# Altium schematic symbol library Fancy.SchLib: 110 symbols
Pins are listed as number, name and electrical type; pins without a type are passive.

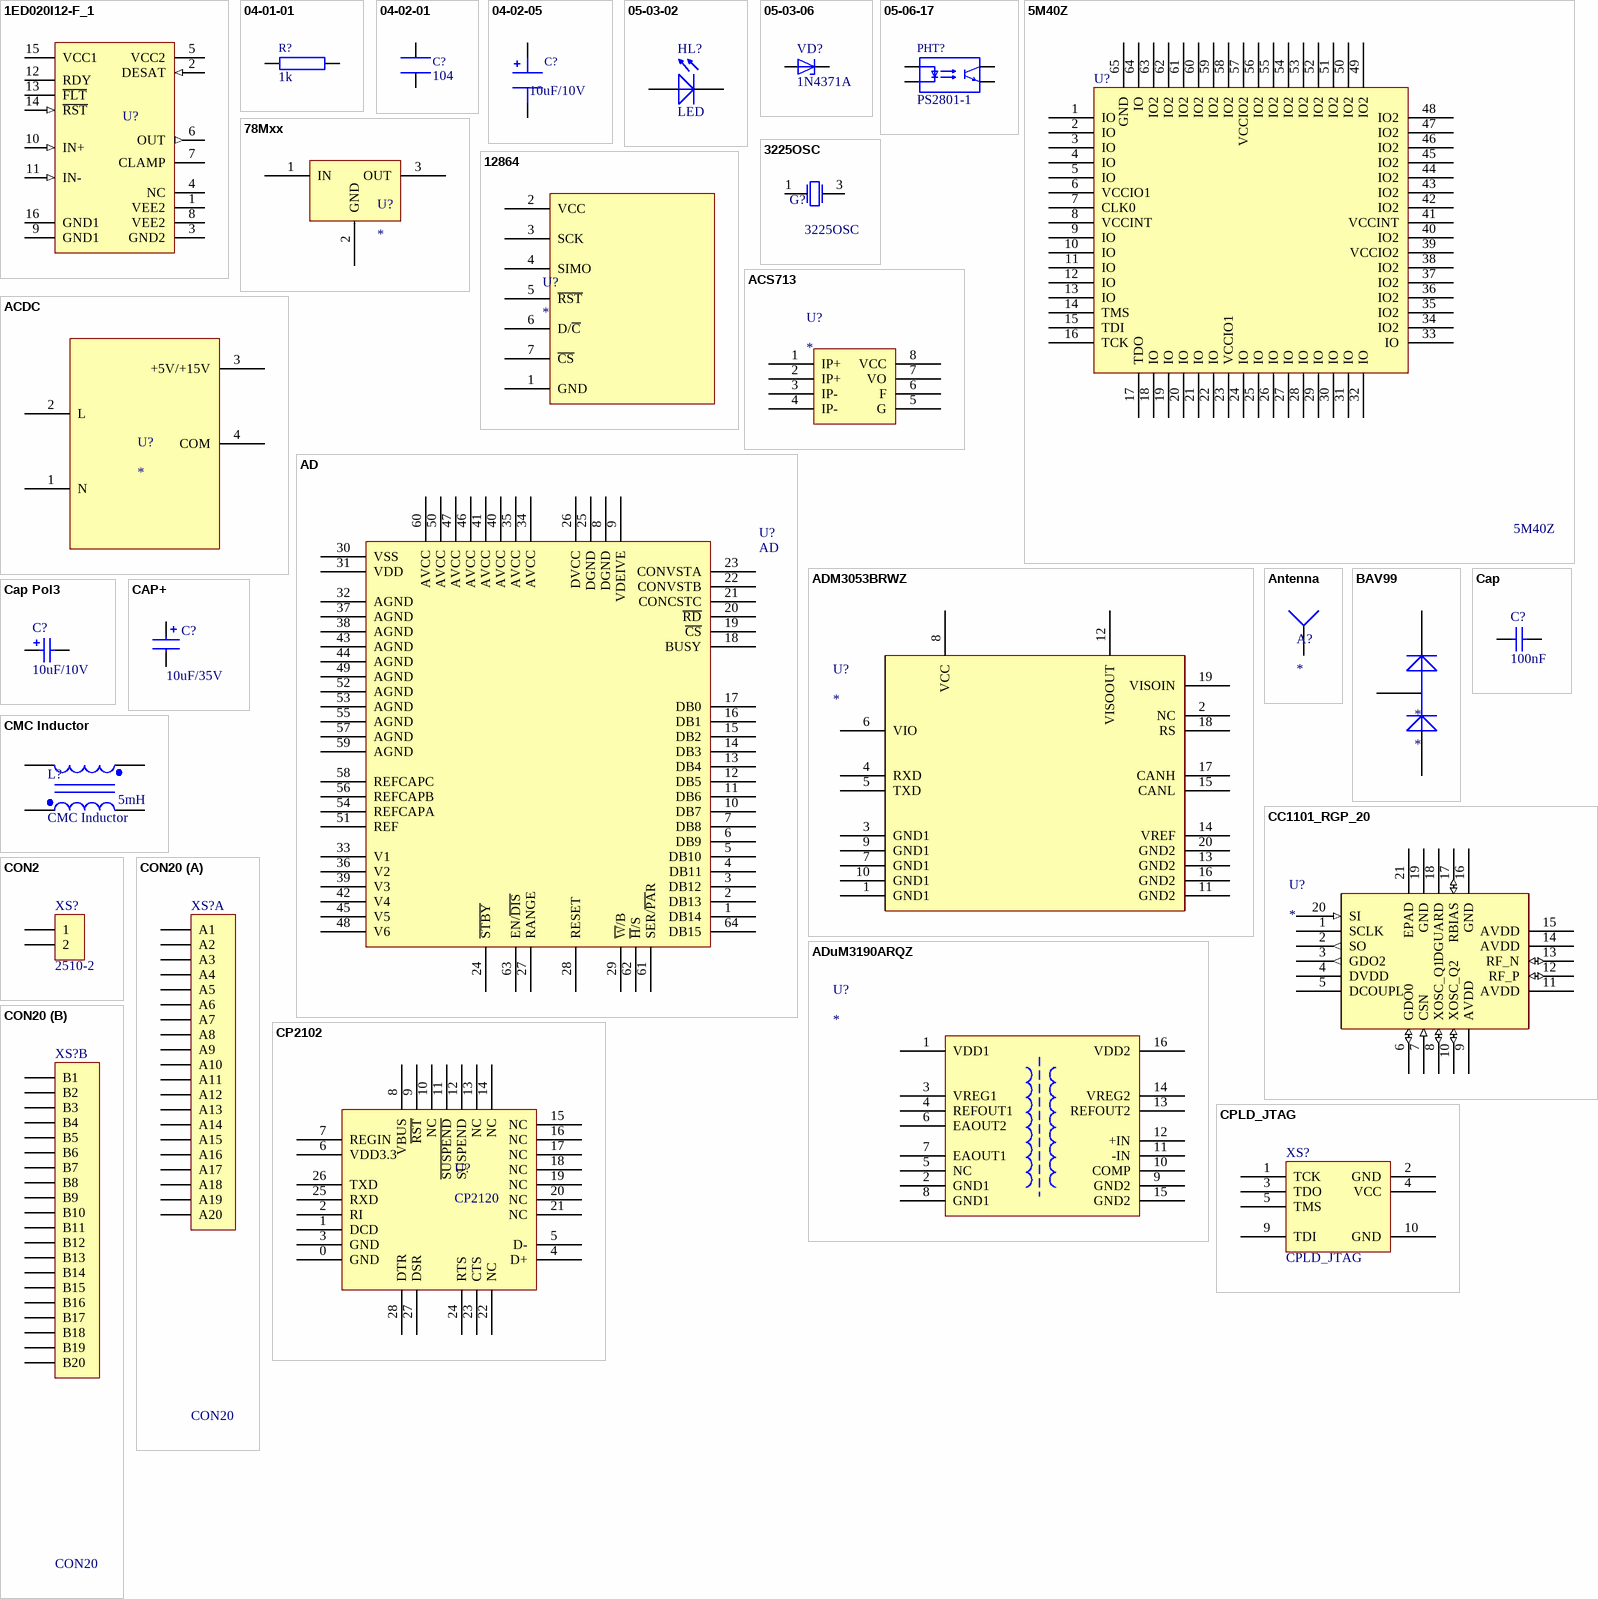
[diagram p0: symbols 1ED020I12-F_1 to CPLD_JTAG]

## 1ED020I12-F_1
designator U?
Single IGBT Driver IC, PG-DSO-16-15, Reel, Green; Manufacturer: Infineon; PartNumber: 1ED020I12-F; Fault Reporting: DESAT; Green: TRUE; Shutdown/Enable: /RST; Tj (max): 150燿egC; Turn On Propagation Delay (max): 205爊s; UVLO_ON_max: 12.6燰; DatasheetVersion: Rev. 2.3; PackageVersion: Rev. 02, 07/2012; PackageReference: PG-DSO-16-15; PackageDescription: 16-Pin Plastic (Green) Dual Small Outline Package, 10.34 x 7.505 mm Body, 1.27 mm Pitch; Supplier 1: Mouser; Supplier Part Number 1: 641-1ED020I12-F; Halogen-free: TRUE; Topology: Single; Mounting Technology: Surface Mount; ComponentLink1Description: Manufacturer URL; ComponentLink1URL: http://www.infineon.com/; ComponentLink2Description: Datasheet; ComponentLink2URL: http://www.infineon.com/dgdl/Datasheet_1ED020I12-F_V2+3.pdf?folderId=db3a30432b16d655012b33fafdac11e2&fileId=db3a30433afc7e3e013b2c689d235c77; ComponentLink3Description: Package Specification; ComponentLink3URL: http://www.infineon.com/dgdl/1ED020I12-B2_DS_rev2+0.pdf?folderId=db3a30432b16d655012b33fafdac11e2&fileId=db3a304333227b5e013344bf16f84ca6
footprint INF-PG-DSO-16-15_A_N (SOP, 16-Leads, Body 10.34x7.505mm, Pitch 1.27mm, IPC Medium Density)
footprint INF-PG-DSO-16-15_A_L (SOP, 16-Leads, Body 10.34x7.505mm, Pitch 1.27mm, IPC High Density)
footprint INF-PG-DSO-16-15_A_M (SOP, 16-Leads, Body 10.34x7.505mm, Pitch 1.27mm, IPC Low Density)
pins: 1 VEE2 (power) "Negative power supply output side", 2 DESAT (in) "Desaturation protection", 3 GND2 (power) "Signal ground output side", 4 NC "Not connected", 5 VCC2 (power) "Positive power supply output side", 6 OUT (out) "Driver output", 7 CLAMP "Miller clamping", 8 VEE2 (power) "Negative power supply output side", 9 GND1 (power) "Ground input side", 10 IN+ (in) "Non inverted driver input", 11 IN- (in) "Inverted driver input", 12 RDY (oc) "Ready output", 13 ~{FLT} (oc) "Fault output, low active", 14 ~{RST} (in) "Reset input, low active", 15 VCC1 (power) "Positive power supply input side", 16 GND1 (power) "Ground input side"

## 04-01-01
designator R?, comment 1k
footprint QSOP_16
pins: 1, 2

## 04-02-01
designator C?, comment 104
footprint 0805
footprint CBB-0.2
pins: 1, 2

## 04-02-05
designator C?, comment 10uF/10V
footprint 3528
pins: 1, 2

## 05-03-02
designator HL?, comment LED
footprint LED-3528
footprint 1206D-12
footprint RB-.1/.2
footprint LED-0805
pins: 1, 2

## 05-03-06
designator VD?, comment 1N4371A
footprint DIODE-0.3
footprint 1206D-AK
pins: A 1, K 2

## 05-06-17
designator PHT?, comment PS2801-1
footprint GUANG'OU
footprint 4-SO-300
pins: A 1, C 4, E 3, K 2

## 5M40Z
designator U?
footprint EQFP64
pins: 1 IO, 2 IO, 3 IO, 4 IO, 5 IO, 6 VCCIO1, 7 CLK0, 8 VCCINT, 9 IO, 10 IO, 11 IO, 12 IO, 13 IO, 14 TMS, 15 TDI, 16 TCK, 17 TDO, 18 IO, 19 IO, 20 IO, 21 IO, 22 IO, 23 VCCIO1, 24 IO, 25 IO, 26 IO, 27 IO, 28 IO, 29 IO, 30 IO, 31 IO, 32 IO, 33 IO, 34 IO2, 35 IO2, 36 IO2, 37 IO2, 38 IO2, 39 VCCIO2, 40 IO2, 41 VCCINT, 42 IO2, 43 IO2, 44 IO2, 45 IO2, 46 IO2, 47 IO2, 48 IO2, 49 IO2, 50 IO2, 51 IO2, 52 IO2, 53 IO2, 54 IO2, 55 IO2, 56 IO2, 57 VCCIO2, 58 IO2, 59 IO2, 60 IO2, 61 IO2, 62 IO2, 63 IO2, 64 IO, 65 GND

## 78Mxx
designator U?
footprint TO252 (DPAK, 3-Leads, Body 6.57x6.1mm, Pitch 2.29mm, IPC Medium Density)
pins: 1 IN, 2 GND, 3 OUT

## 3225OSC
designator G?
Crystal Oscillator
footprint 3225OSC
pins: 1, 2 hidden to GND, 3, 4 hidden to GND

## 12864
designator U?
footprint 12864
pins: 1 GND, 2 VCC, 3 SCK, 4 SIMO, 5 ~{RST}, 6 D/~{C}, 7 ~{CS}

## ACDC
designator U?
footprint ACDC
pins: 1 N, 2 L, 3 +5V/+15V, 4 COM

## ACS713
designator U?
霍尔元件
pins: 1 IP+, 2 IP+, 3 IP-, 4 IP-, 5 G, 6 F, 7 VO, 8 VCC

## AD
designator U?
footprint GEOM_0001
pins: 1 DB14, 2 DB13, 3 DB12, 4 DB11, 5 DB10, 6 DB9, 7 DB8, 8 DGND, 9 VDEIVE, 10 DB7, 11 DB6, 12 DB5, 13 DB4, 14 DB3, 15 DB2, 16 DB1, 17 DB0, 18 BUSY, 19 ~{CS}, 20 ~{RD}, 21 CONCSTC, 22 CONVSTB, 23 CONVSTA, 24 ~{STBY}, 25 DGND, 26 DVCC, 27 RANGE, 28 RESET, 29 ~{W}/B, 30 VSS, 31 VDD, 32 AGND, 33 V1, 34 AVCC, 35 AVCC, 36 V2, 37 AGND, 38 AGND, 39 V3, 40 AVCC, 41 AVCC, 42 V4, 43 AGND, 44 AGND, 45 V5, 46 AVCC, 47 AVCC, 48 V6, 49 AGND, 50 AVCC, 51 REF, 52 AGND, 53 AGND, 54 REFCAPA, 55 AGND, 56 REFCAPB, 57 AGND, 58 REFCAPC, 59 AGND, 60 AVCC, 61 SER/~{PA}R, 62 ~{H}/S, 63 EN/~{DIS}, 64 DB15

## ADM3053BRWZ
designator U?
Imported; RefDes: RefDes; Type: DEV; Value: Value
footprint RW_20
pins: 1 GND1, 2 NC, 3 GND1, 4 RXD, 5 TXD, 6 VIO, 7 GND1, 8 VCC, 9 GND1, 10 GND1, 11 GND2, 12 VISOOUT, 13 GND2, 14 VREF, 15 CANL, 16 GND2, 17 CANH, 18 RS, 19 VISOIN, 20 GND2

## ADuM3190ARQZ
designator U?
Imported; RefDes: RefDes; Type: DEV; Value: Value
footprint RQ_16
pins: 1 VDD1, 2 GND1, 3 VREG1, 4 REFOUT1, 5 NC, 6 EAOUT2, 7 EAOUT1, 8 GND1, 9 GND2, 10 COMP, 11 -IN, 12 +IN, 13 REFOUT2, 14 VREG2, 15 GND2, 16 VDD2

## Antenna
designator A?
footprint U.FL
pins: 0, 1

## BAV99
designator *
footprint SOT23-3
pins: 1, 2, 3

## Cap
designator C?  value 100nF  (hidden comment: Cap)
Capacitor; Published: 8-Jun-2000; Revision: July-2002: Re-released for DXP Platform.; Publisher: Altium Limited
footprint 0805
simulation model CAP (Capacitor)
signal-integrity model Cap
footprint CAPR5.08-7.8X3.2
footprint CAPR2.54-5.1X3.2
pins: 1, 2

## Cap Pol3
designator C?  value 10uF/10V  (hidden comment: Cap Pol3)
Polarized Capacitor (Surface Mount); Published: 8-Jun-2000; Revision: July-2002: Re-released for DXP Platform.; Publisher: Altium Limited
footprint 3528
simulation model CAP (Capacitor)
signal-integrity model Cap Pol
footprint CC4532-1812
footprint CC4564-1825
footprint CC5750-2220
footprint CC5664-2225
pins: 1, 2

## CAP+
designator C?, comment 10uF/35V
footprint 6032
pins: 1, 2

## CC1101_RGP_20
designator U?
Imported; Manufacturer: Texas Instruments; GENERIC_PART_NUMBER: CC1101; INDUSTRY_STD_PKG_TYPE: QFN; FAMILY_NAME: 6LoWPAN; PIN_COUNT: 20; PACKAGE_DESIGNATOR: RGP; Datasheet URL: http://www.ti.com/lit/gpn/CC1101; RefDes: RefDes; Type: DEV; Value: Value
footprint RGP20_2P4X2P4
pins: 1 SCLK, 2 SO (out), 3 GDO2 (out), 4 DVDD (power), 5 DCOUPL (power), 6 GDO0 (io), 7 CSN (in), 8 XOSC_Q1 (io), 9 AVDD (power), 10 XOSC_Q2 (io), 11 AVDD (power), 12 RF_P (io), 13 RF_N (io), 14 AVDD (power), 15 AVDD (power), 16 GND (power), 17 RBIAS (io), 18 DGUARD (power), 19 GND (power), 20 SI (in), 21 EPAD (power)

## CMC Inductor
designator L?  value 5mH
Magnetic-Core Inductor with Winding Polarity Marking; Published: 24-Mar-1999; LatestRevisionDate: 17-Jul-2002; LatestRevisionNote: Re-released for DXP Platform.; PackageReference: DIODE_SMC; Publisher: Altium Limited
footprint CMC
pins: 1, 2, 3, 4

## CON2
designator XS?, comment 2510-2
Connector
footprint 2510-2
pins: 1, 2
2 alternate drawings of the same symbol

## CON20
designator XS?
20路
footprint APMEL-96M
footprint APMEL-96F
part A pins: A1, A2, A3, A4, A5, A6, A7, A8, A9, A10, A11, A12, A13, A14, A15, A16, A17, A18, A19, A20
part B pins: B1, B2, B3, B4, B5, B6, B7, B8, B9, B10, B11, B12, B13, B14, B15, B16, B17, B18, B19, B20

## CP2102
designator U?, comment CP2120
footprint QFN28
pins: 0 GND, 1 DCD, 2 RI, 3 GND, 4 D+, 5 D-, 6 VDD3.3, 7 REGIN, 8 VBUS, 9 ~{RST}, 10 NC, 11 ~{SUSPEND}, 12 SUSPEND, 13 NC, 14 NC, 15 NC, 16 NC, 17 NC, 18 NC, 19 NC, 20 NC, 21 NC, 22 NC, 23 CTS, 24 RTS, 25 RXD, 26 TXD, 27 DSR, 28 DTR

## CPLD_JTAG
designator XS?
footprint IDC-10Z
pins: 1 TCK, 2 GND, 3 TDO, 4 VCC, 5 TMS, 9 TDI, 10 GND

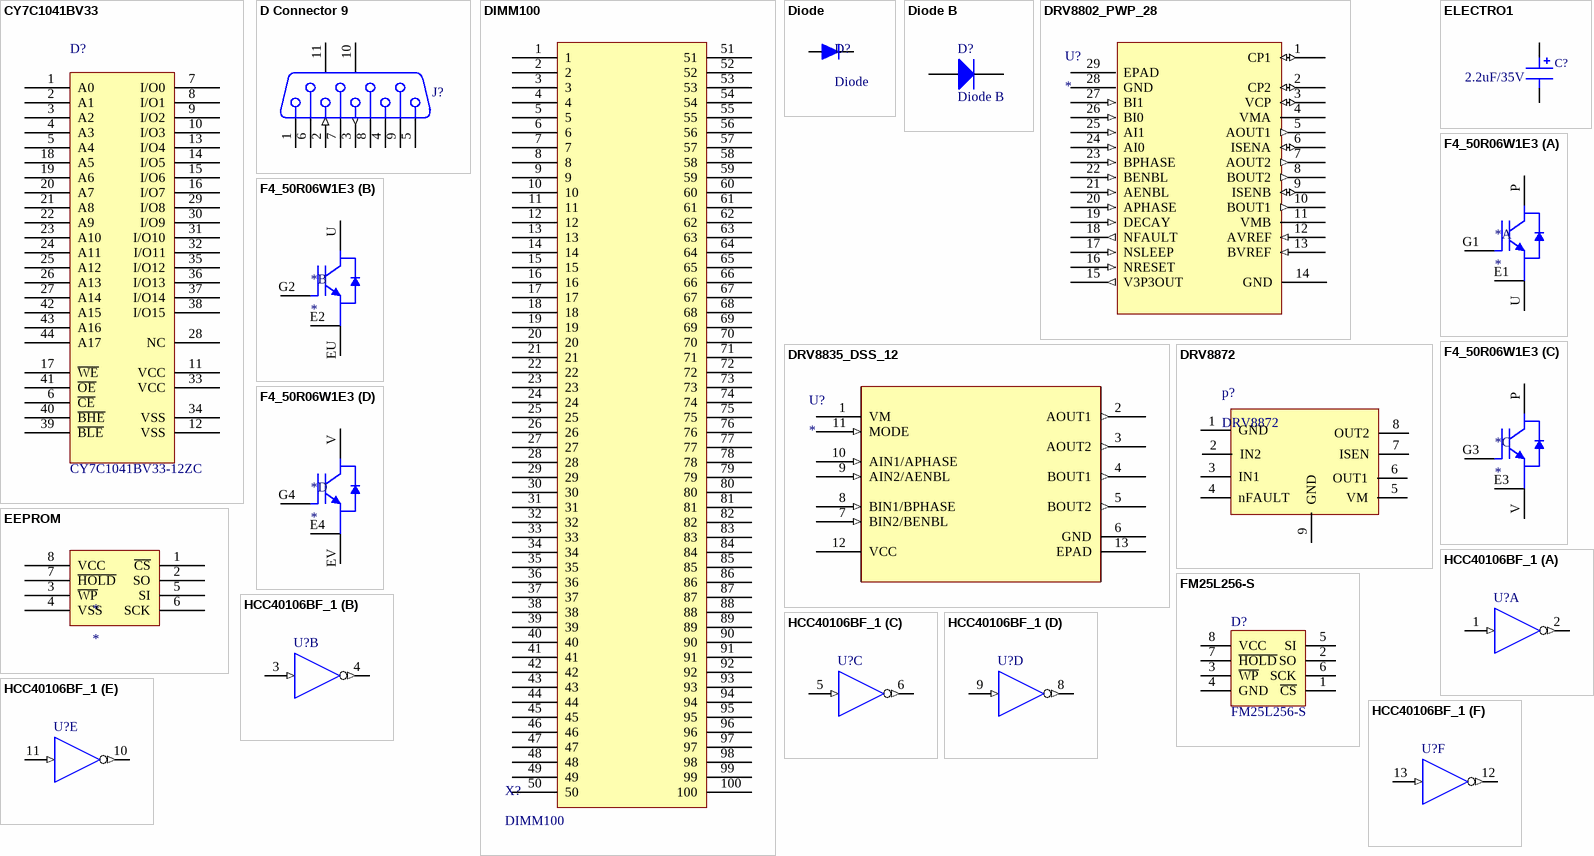
[diagram p1: symbols CY7C1041BV33 to HCC40106BF_1]

## CY7C1041BV33
designator D?, comment CY7C1041BV33-12ZC
footprint TSOP-44
pins: 1 A0, 2 A1, 3 A2, 4 A3, 5 A4, 6 ~{CE}, 7 I/O0, 8 I/O1, 9 I/O2, 10 I/O3, 11 VCC, 12 VSS, 13 I/O4, 14 I/O5, 15 I/O6, 16 I/O7, 17 ~{WE}, 18 A5, 19 A6, 20 A7, 21 A8, 22 A9, 23 A10, 24 A11, 25 A12, 26 A13, 27 A14, 28 NC, 29 I/O8, 30 I/O9, 31 I/O10, 32 I/O11, 33 VCC, 34 VSS, 35 I/O12, 36 I/O13, 37 I/O14, 38 I/O15, 39 ~{BLE}, 40 ~{BHE}, 41 ~{OE}, 42 A15, 43 A16, 44 A17

## D Connector 9
designator J?  (value not drawn)
Receptacle Assembly, 9 Position, Right Angle; PackageDocument: O; Positions: 9; Published: 15-Jun-2001; LatestRevisionDate: 17-Jul-2002; LatestRevisionNote: Re-released for DXP Platform.; DatasheetDocument: 1-Sep-1999; PackageReference: 788750; Publisher: Altium Limited; Orientation: Right Angle; Gender: Receptacle
footprint DSUB1.385-2H9
pins: 1, 2 (in), 3 (out), 4, 5, 6, 7, 8, 9, 10 MH1, 11 MH2
2 alternate drawings of the same symbol

## DIMM100
designator X?
footprint DIMM100-S
pins: 1, 2, 3, 4, 5, 6, 7, 8, 9, 10, 11, 12, 13, 14, 15, 16, 17, 18, 19, 20, 21, 22, 23, 24, 25, 26, 27, 28, 29, 30, 31, 32, 33, 34, 35, 36, 37, 38, 39, 40, 41, 42, 43, 44, 45, 46, 47, 48, 49, 50, 51, 52, 53, 54, 55, 56, 57, 58, 59, 60, 61, 62, 63, 64, 65, 66, 67, 68, 69, 70, 71, 72, 73, 74, 75, 76, 77, 78, 79, 80, 81, 82, 83, 84, 85, 86, 87, 88, 89, 90, 91, 92, 93, 94, 95, 96, 97, 98, 99, 100

## Diode
designator D?
footprint DIODE-0.3
footprint 1206D-AK
pins: A 1, K 2

## Diode B
designator D?
1 Amp General Purpose Rectifier; Published: 8-Jun-2000; LatestRevisionDate: 17-Jul-2002; LatestRevisionNote: Re-released for DXP Platform.; DatasheetVersion: 1998; PackageVersion: Aug-1999; PackageReference: DO-41; Publisher: Altium Limited; Code_JEDEC: DO-204-AL; ComponentLink1Description: Manufacturer Link; ComponentLink1URL: http://www.fairchildsemi.com/; ComponentLink2Description: Datasheet; ComponentLink2URL: http://www.fairchildsemi.com/ds/1N%2F1N4001.pdf
footprint SOD323
pins: 1 A, 2 K

## DRV8802_PWP_28
designator U?
Imported; Manufacturer: Texas Instruments; GENERIC_PART_NUMBER: DRV8802; Manufacturer_Part_Number: drv8802_pwp_28; INDUSTRY_STD_PKG_TYPE: HTSSOP; FAMILY_NAME: BRUSHED DC DRIVER; PIN_COUNT: 28; PACKAGE_DESIGNATOR: PWP; Datasheet URL: http://www.ti.com/lit/gpn/DRV8802; Vendor: Texas Instruments; RefDes: RefDes; Type: DEV; Value: Value
footprint PWP28_3P04X2P34
pins: 1 CP1 (io), 2 CP2 (io), 3 VCP (io), 4 VMA (power), 5 AOUT1 (out), 6 ISENA (io), 7 AOUT2 (out), 8 BOUT2 (out), 9 ISENB (io), 10 BOUT1 (out), 11 VMB (power), 12 AVREF (in), 13 BVREF (in), 14 GND (power), 15 V3P3OUT (out), 16 NRESET (in), 17 NSLEEP (in), 18 NFAULT (out), 19 DECAY (in), 20 APHASE (in), 21 AENBL (in), 22 BENBL (in), 23 BPHASE (in), 24 AI0 (in), 25 AI1 (in), 26 BI0 (in), 27 BI1 (in), 28 GND (power), 29 EPAD

## DRV8835_DSS_12
designator U?
Imported; Manufacturer_Part_Number: drv8835_dss_12; Vendor: Texas Instruments; RefDes: RefDes; Type: DEV; Value: Value
footprint DSS12_P9X2
pins: 1 VM (power), 2 AOUT1 (out), 3 AOUT2 (out), 4 BOUT1 (out), 5 BOUT2 (out), 6 GND (power), 7 BIN2/BENBL (in), 8 BIN1/BPHASE (in), 9 AIN2/AENBL (in), 10 AIN1/APHASE (in), 11 MODE (in), 12 VCC (power), 13 EPAD

## DRV8872
designator p?
pins: 1 GND, 2 IN2, 3 IN1, 4 nFAULT, 5 VM, 6 OUT1, 7 ISEN, 8 OUT2, 9 GND

## EEPROM
designator *
footprint SOIC8
pins: 1 ~{CS}, 2 SO, 3 ~{WP}, 4 VSS, 5 SI, 6 SCK, 7 ~{HOLD}, 8 VCC

## ELECTRO1
designator C?, comment 2.2uF/35V
footprint 3528
pins: 1, 2

## F4_50R06W1E3
designator *
footprint F4-50RW1E3
part A pins: E1, G1, P, U
part B pins: E2, EU, G2, U
part C pins: E3, G3, P, V
part D pins: E4, EV, G4, V

## FM25L256-S
designator D?
footprint 8-SO-300
pins: 1 ~{CS}, 2 SO, 3 ~{WP}, 4 GND, 5 SI, 6 SCK, 7 ~{HOLD}, 8 VCC
2 alternate drawings of the same symbol

## HCC40106BF_1
designator U?
Hex Schmitt Trigger; Published: 8-Jun-2000; LatestRevisionDate: 06-Jun-2005; LatestRevisionNote: Stylized 3D Model Added.; DatasheetVersion: Jun-1989; PackageReference: CDIP14; Publisher: Altium Limited; PackageDescription: DIP; 14 Leads; Row Spacing 7.62 mm; Pitch 2.54 mm; ComponentLink1Description: Manufacturer Link; ComponentLink1URL: http://www.st.com/
footprint SOP14
pins on every part: 7 GND (power) hidden to DGND, 14 VCC (power) hidden to VD+3.3V
part A pins: 1 A (in), 2 G (out)
part B pins: 3 B (in), 4 H (out)
part C pins: 5 C (in), 6 I (out)
part D pins: 8 J (out), 9 D (in)
part E pins: 10 K (out), 11 E (in)
part F pins: 12 L (out), 13 F (in)

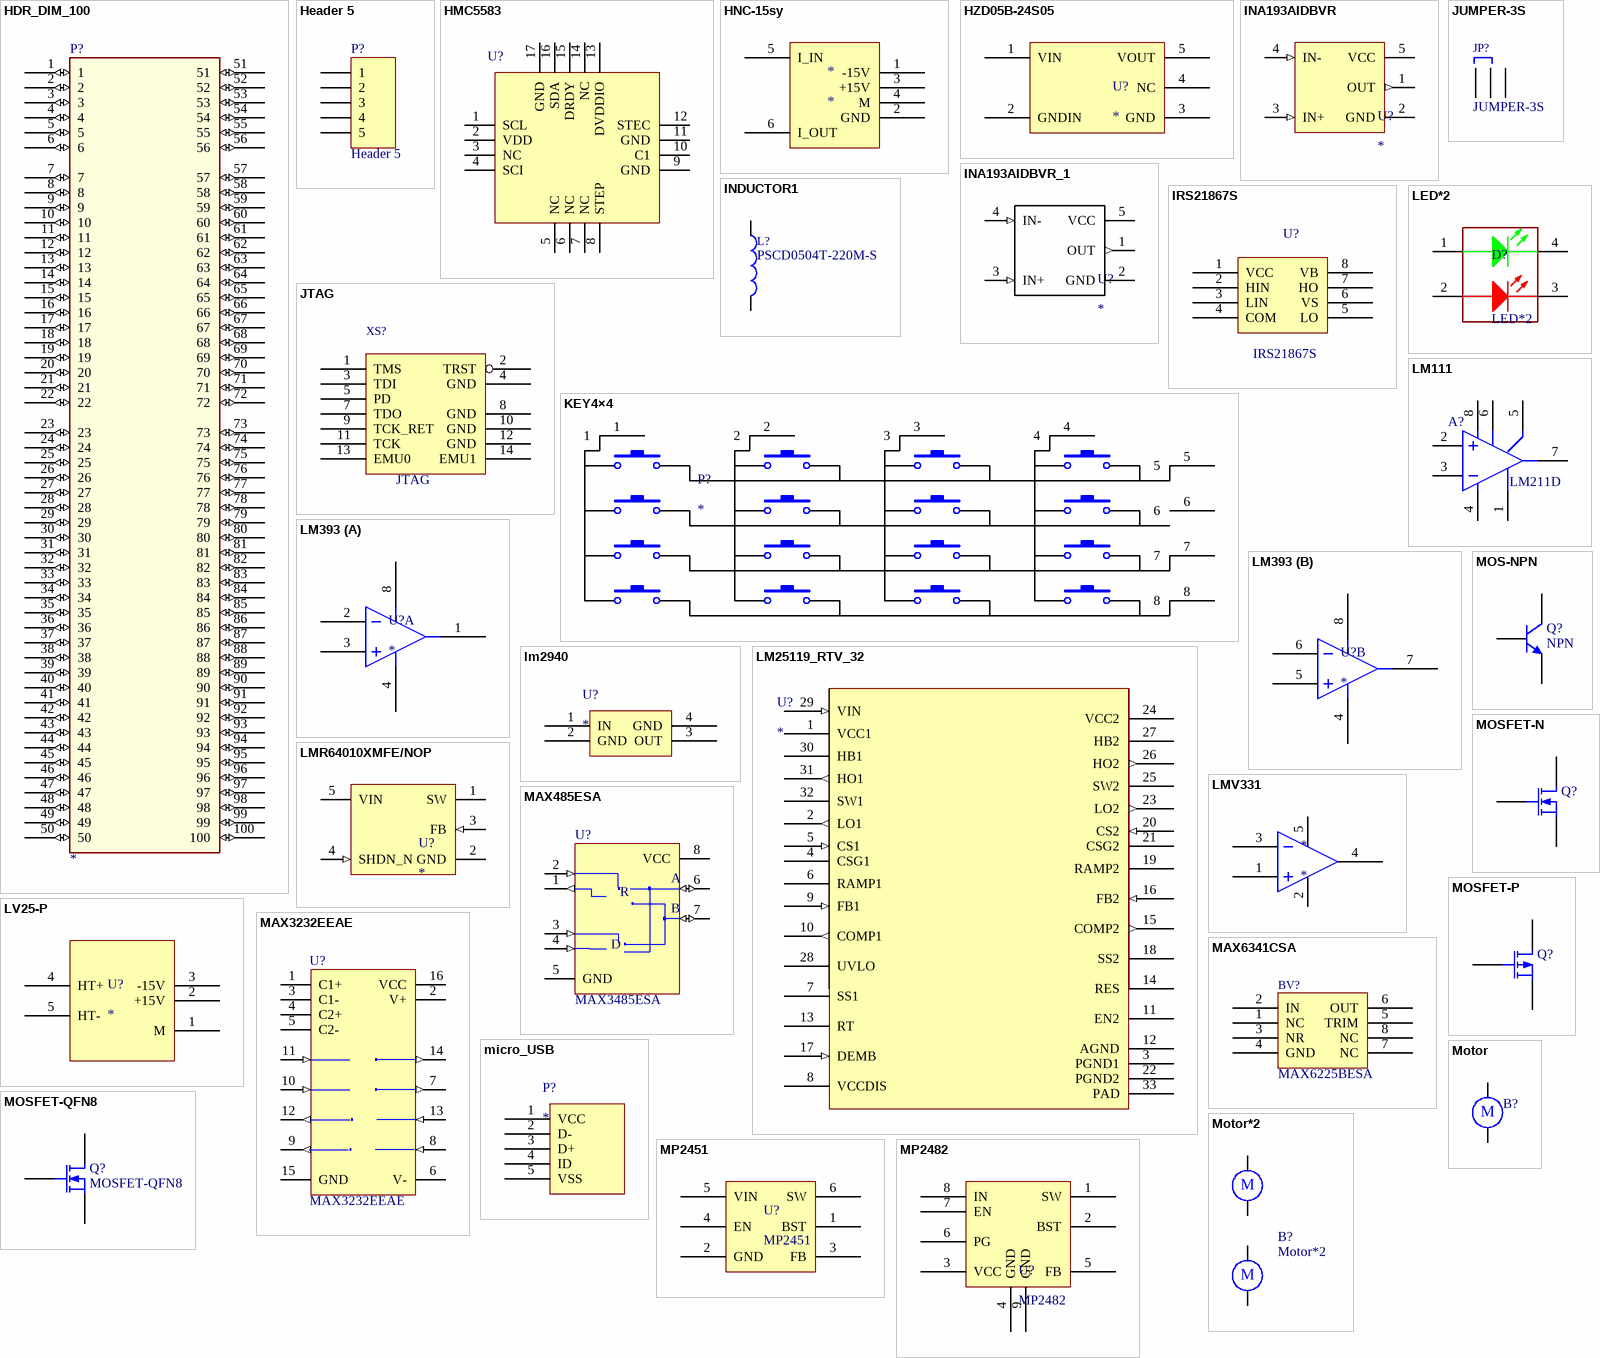
[diagram p2: symbols HDR_DIM_100 to MP2482]

## HDR_DIM_100
designator P?
pins: 1 (io), 2 (io), 3 (io), 4 (io), 5 (io), 6 (io), 7 (io), 8 (io), 9 (io), 10 (io), 11 (io), 12 (io), 13 (io), 14 (io), 15 (io), 16 (io), 17 (io), 18 (io), 19 (io), 20 (io), 21 (io), 22 (io), 23 (io), 24 (io), 25 (io), 26 (io), 27 (io), 28 (io), 29 (io), 30 (io), 31 (io), 32 (io), 33 (io), 34 (io), 35 (io), 36 (io), 37 (io), 38 (io), 39 (io), 40 (io), 41 (io), 42 (io), 43 (io), 44 (io), 45 (io), 46 (io), 47 (io), 48 (io), 49 (io), 50 (io), 51 (io), 52 (io), 53 (io), 54 (io), 55 (io), 56 (io), 57 (io), 58 (io), 59 (io), 60 (io), 61 (io), 62 (io), 63 (io), 64 (io), 65 (io), 66 (io), 67 (io), 68 (io), 69 (io), 70 (io), 71 (io), 72 (io), 73 (io), 74 (io), 75 (io), 76 (io), 77 (io), 78 (io), 79 (io), 80 (io), 81 (io), 82 (io), 83 (io), 84 (io), 85 (io), 86 (io), 87 (io), 88 (io), 89 (io), 90 (io), 91 (io), 92 (io), 93 (io), 94 (io), 95 (io), 96 (io), 97 (io), 98 (io), 99 (io), 100 (io)

## Header 5
designator P?
Header, 5-Pin; LatestRevisionDate: 17-Jul-2002; LatestRevisionNote: Re-released for DXP Platform.; Publisher: Altium Limited
footprint HDR1X5 (Connector; Header; 5 Position)
signal-integrity model Connector
pins: 1, 2, 3, 4, 5

## HMC5583
designator U?
pins: 1 SCL, 2 VDD, 3 NC, 4 SCI, 5 NC, 6 NC, 7 NC, 8 STEP, 9 GND, 10 C1, 11 GND, 12 STEC, 13 DVDDIO, 14 NC, 15 DRDY, 16 SDA, 17 GND

## HNC-15sy
designator *
footprint HNC-15sy
pins: 1 -15V, 2 GND, 3 +15V, 4 M, 5 I_IN, 6 I_OUT

## HZD05B-24S05
designator U?
footprint HZD05B-24S05
pins: 1 VIN, 2 GNDIN, 3 GND, 4 NC, 5 VOUT

## INA193AIDBVR
designator U?
Imported; PartNumber: INA193AIDBV; Manufacturer: Texas Instruments; CompType: IC; PIN_COUNT: 5; PackageReference: DBV0005A; MountType: SMT; RoHS: Y; RefDes: RefDes; Type: DEV; Value: Value
footprint DBV0005A_N
pins: 1 OUT (out), 2 GND (power), 3 IN+ (in), 4 IN- (in), 5 VCC (power)

## INA193AIDBVR_1
designator U?
Imported; PartNumber: INA193AIDBV; Manufacturer: Texas Instruments; CompType: IC; PIN_COUNT: 5; PackageReference: DBV0005A; MountType: SMT; RoHS: Y; RefDes: RefDes; Type: DEV; Value: Value
footprint SOT23-5
pins: 1 OUT (out), 2 GND (power), 3 IN+ (in), 4 IN- (in), 5 VCC (power)

## INDUCTOR1
designator L?, comment PSCD0504T-220M-S
footprint PSCD0504T-P
pins: 1, 2

## IRS21867S
designator U?
footprint SO8
footprint SOP8
pins: 1 VCC, 2 HIN, 3 LIN, 4 COM, 5 LO, 6 VS, 7 HO, 8 VB

## JTAG
designator XS?
footprint IDC-14Z
footprint IDC-14Z
pins: 1 TMS, 2 TRST, 3 TDI, 4 GND, 5 PD, 7 TDO, 8 GND, 9 TCK_RET, 10 GND, 11 TCK, 12 GND, 13 EMU0, 14 EMU1
2 alternate drawings of the same symbol

## JUMPER-3S
designator JP?
footprint SIP3
pins: 1, 2, 3
2 alternate drawings of the same symbol

## KEY4×4
designator P?
footprint HDR1X8 (Connector; Header; 8 Position)
pins: 1, 1, 1, 1, 1, 1, 1, 1, 1, 1, 1, 1, 1, 1, 1, 1, 1, 2, 2, 2, 2, 2, 2, 2, 2, 2, 2, 2, 2, 2, 2, 2, 2, 2, 3, 4, 5, 6, 7, 8

## LED*2
designator D?
Typical INFRARED GaAs LED; Published: 8-Jun-2000; LatestRevisionDate: 08-Jul-2005; LatestRevisionNote: Mech Layer 1 removed.; PackageReference: LED-0; Publisher: Altium Limited
footprint LED-0 (Typical INFRARED GaAs LED; 2 Leads)
simulation model LED0 (Diode)
footprint 1206LED*2
pins: 1 A, 2 A, 3 K, 4 K

## LM111
designator A?, comment LM211D
footprint DIP8
footprint 8-SO-300
pins: 1, 2, 3, 4, 5, 6, 7, 8
2 alternate drawings of the same symbol

## LM393
designator U?
footprint SOP8_N (SOIC, 8-Leads, Body 4.9x3.9mm, Pitch 1.27mm, IPC Medium Density)
part A pins: 1, 2, 3, 4, 8
part B pins: 4, 5, 6, 7, 8

## lm2940
designator U?
pins: 1 IN, 2 GND, 3 OUT, 4 GND

## LM25119_RTV_32
designator U?
Imported; Manufacturer: Texas Instruments; Manufacturer_Part_Number: lm25119_rtv_32; basePN: LM25119; NSC_PackageReference: SQA32A; DatasheetURL: http://www.ti.com/lit/ds/symlink/lm25119.pdf; Vendor: Texas Instruments; RefDes: RefDes; Type: DEV; Value: Value
footprint SQA32A
pins: 1 VCC1 (power), 2 LO1 (out), 3 PGND1 (power), 4 CSG1, 5 CS1 (in), 6 RAMP1, 7 SS1, 8 VCCDIS (power), 9 FB1 (in), 10 COMP1 (out), 11 EN2, 12 AGND (power), 13 RT, 14 RES, 15 COMP2 (out), 16 FB2 (in), 17 DEMB (in), 18 SS2, 19 RAMP2, 20 CS2 (in), 21 CSG2, 22 PGND2 (power), 23 LO2 (out), 24 VCC2 (power), 25 SW2, 26 HO2 (out), 27 HB2, 28 UVLO, 29 VIN (in), 30 HB1, 31 HO1 (out), 32 SW1, 33 PAD

## LMR64010XMFE/NOP
designator U?
Imported; PartNumber: LMR64010XMFE/NOPB; Manufacturer: Texas Instruments; CompType: IC; PIN_COUNT: 5; PackageReference: DBV0005A; MountType: SMT; RoHS: Y; RefDes: RefDes; Type: DEV; Value: Value
footprint DBV0005A_N
pins: 1 SW (power), 2 GND (power), 3 FB (in), 4 SHDN_N (in), 5 VIN (power)

## LMV331
designator *
footprint SOT23-5
pins: 1, 2, 3, 4, 5

## LV25-P
designator U?
footprint LV25-p
pins: 1 M, 2 +15V, 3 -15V, 4 HT+, 5 HT-

## MAX485ESA
designator U?, comment MAX3485ESA
Low-Power, Slew-Rate-Limited RS-485/RS-422 Transceiver; Published: 16-Jan-2001; LatestRevisionDate: 13-Apr-2006; LatestRevisionNote: IPC-7351 Footprint Added.; DatasheetVersion: Feb-1996; PackageReference: NSO8; Publisher: Altium Limited; PackageDescription: 8-Pin Small Outline Integrated Circuit 1.27 mm Pitch; Code_JEDEC: MS-012-AA; Code_IPC: SOIC127P600-8; ComponentLink1Description: Manufacturer Link; ComponentLink1URL: http://www.maxim-ic.com/; ComponentLink2Description: Datasheet; ComponentLink2URL: http://pdfserv.maxim-ic.com/en/ds/MAX1487-MAX491.pdf
footprint NSO8_N
footprint NSO8_L
footprint NSO8_M
pins: 1 RO (out), 2 ~{RE} (in), 3 DE (in), 4 DI (in), 5 GND (power), 6 A (io), 7 B (io), 8 VCC (power)
2 alternate drawings of the same symbol
text: R; D

## MAX3232EEAE
designator U?
?5kV ESD-Protected, 3.0V to 5.5V, Low-Power, up to 250kbps, True RS-232 Transceiver; Published: 16-Jan-2001; LatestRevisionDate: 06-Jun-2005; LatestRevisionNote: Stylized 3D Model Added.; DatasheetVersion: Mar-1999; PackageVersion: 1996; PackageReference: SSOP16; Publisher: Altium Limited; PackageDescription: SSOP; 16 Leads; Body Width 5.3 mm; Pitch 0.65 mm; ComponentLink1Description: Manufacturer Link; ComponentLink1URL: http://www.maxim-ic.com/; ComponentLink2Description: Datasheet; ComponentLink2URL: http://pdfserv.maxim-ic.com/en/ds/MAX3222E-MAX3246E.pdf
footprint SSOP16
pins: 1 C1+, 2 V+ (power), 3 C1-, 4 C2+, 5 C2-, 6 V- (power), 7 T2OUT (out), 8 R2IN (in), 9 R2OUT (out), 10 T2IN (in), 11 T1IN (in), 12 R1OUT (out), 13 R1IN (in), 14 T1OUT (out), 15 GND (power), 16 VCC (power)
2 alternate drawings of the same symbol

## MAX6341CSA
designator BV?, comment MAX6225BESA
footprint SO-8
footprint 8-SO-300
pins: 1 NC, 2 IN, 3 NR, 4 GND, 5 TRIM, 6 OUT, 7 NC, 8 NC

## micro_USB
designator P?
MicroUSB接口
footprint MicroUSB-5
pins: 1 VCC, 2 D- , 3 D+, 4 ID, 5 VSS

## MOS-NPN
designator Q?, comment NPN
NPN General Purpose Amplifier; Published: 8-Jun-2000; LatestRevisionDate: 15-Jan-2003; LatestRevisionNote: PCB Footprint 'BCY-W3/D4.7' replaced; DatasheetVersion: 1997; PackageVersion: Sep-1998; PackageReference: TO-92A; Publisher: Altium Limited; Code_JEDEC: TO-92A; ComponentLink1Description: Manufacturer Link; ComponentLink1URL: http://www.fairchildsemi.com/; ComponentLink2Description: Datasheet; ComponentLink2URL: http://www.fairchildsemi.com/ds/2N%2F2N3904.pdf
footprint SOT23-3
pins: 1 B, 2 E, 3 C

## MOSFET-N
designator Q?
N-Channel MOSFET; Published: 8-Jun-2000; LatestRevisionDate: 17-Jul-2002; LatestRevisionNote: Re-released for DXP Platform.; PackageVersion: 1995/1996; PackageReference: E3; Publisher: Altium Limited
footprint BCY-W3/B.8 (TO, Flat Index; 3 In-Line, Axial Leads; Body Dia. 4.6mm; Lead Dia. 0.5 mm (max))
simulation model NMOS (MOSFET-N)
pins: 1 G, 2 D, 3 S

## MOSFET-P
designator Q?
P-Channel MOSFET; Published: 8-Jun-2000; LatestRevisionDate: 17-Jul-2002; LatestRevisionNote: Re-released for DXP Platform.; PackageVersion: 1995/1996; PackageReference: E3; Publisher: Altium Limited
footprint BCY-W3/B.8 (TO, Flat Index; 3 In-Line, Axial Leads; Body Dia. 4.6mm; Lead Dia. 0.5 mm (max))
simulation model PMOS (MOSFET-P)
pins: 1 G, 2 D, 3 S

## MOSFET-QFN8
designator Q?
N-Channel MOSFET; Published: 8-Jun-2000; LatestRevisionDate: 17-Jul-2002; LatestRevisionNote: Re-released for DXP Platform.; PackageVersion: 1995/1996; PackageReference: E3; Publisher: Altium Limited
footprint QFN8-5*6
pins: 1 S, 2 S, 3 S, 4 G, 5 D, 6 D, 7 D, 8 D

## Motor
designator B?
Motor, General Kind; Published: 24-Mar-1999; LatestRevisionDate: 17-Jul-2002; LatestRevisionNote: Re-released for DXP Platform.; PackageReference: RB5-10.5; Publisher: Altium Limited
pins: 1, 2
text: M

## Motor*2
designator B?
Motor, General Kind; Published: 24-Mar-1999; LatestRevisionDate: 17-Jul-2002; LatestRevisionNote: Re-released for DXP Platform.; PackageReference: RB5-10.5; Publisher: Altium Limited
pins: 1, 2, 3, 4
text: M

## MP2451
designator U?
footprint SOT23-6 (Footprint not found)
pins: 1 BST, 2 GND, 3 FB, 4 EN, 5 VIN, 6 SW

## MP2482
designator U?
footprint 1206LED*2 (Footprint not found)
pins: 1 SW, 2 BST, 3 VCC, 4 GND, 5 FB, 6 PG, 7 EN, 8 IN, 9 GND

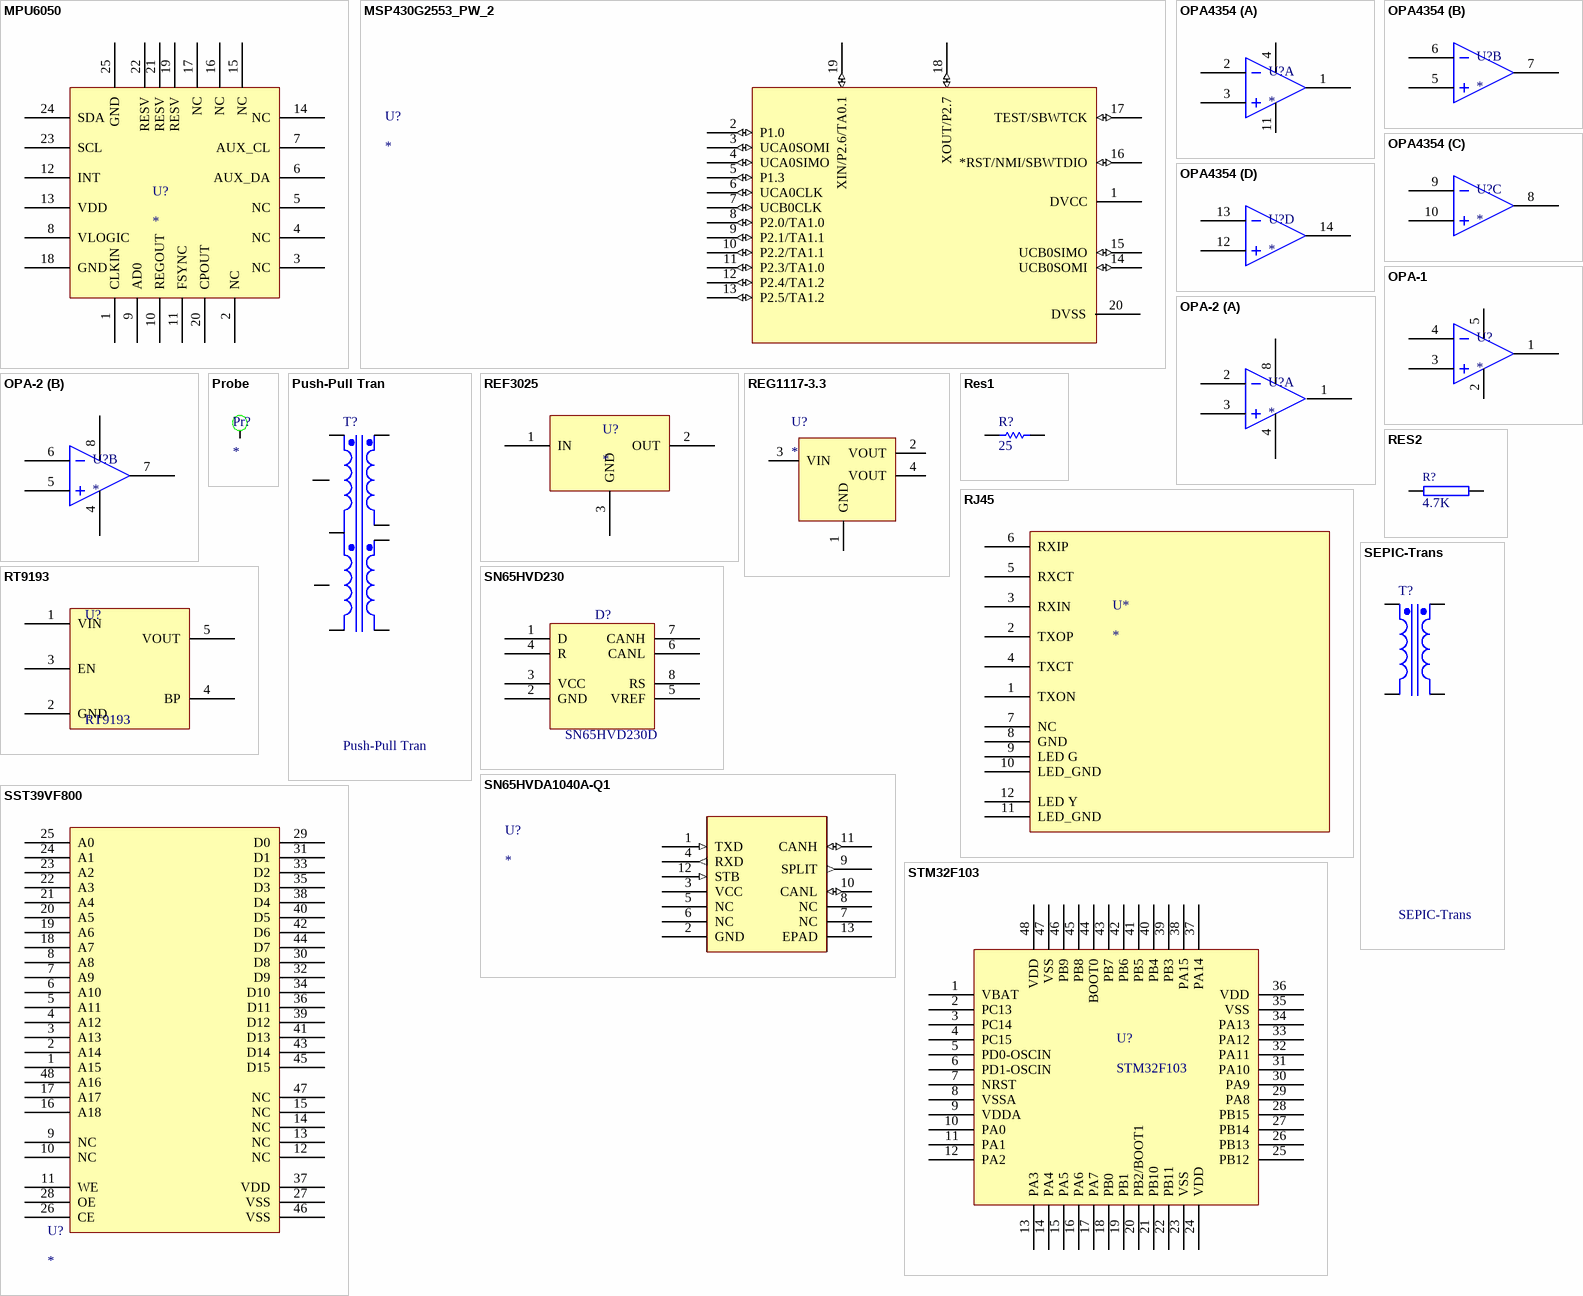
[diagram p3: symbols MPU6050 to STM32F103]

## MPU6050
designator U?
footprint QFN24
pins: 1 CLKIN, 2 NC, 3 NC, 4 NC, 5 NC, 6 AUX_DA, 7 AUX_CL, 8 VLOGIC, 9 AD0, 10 REGOUT, 11 FSYNC, 12 INT, 13 VDD, 14 NC, 15 NC, 16 NC, 17 NC, 18 GND, 19 RESV, 20 CPOUT, 21 RESV, 22 RESV, 23 SCL, 24 SDA, 25 GND

## MSP430G2553_PW_2
designator U?
Imported; Manufacturer_Part_Number: msp430g2553_pw_20; GENERIC_PART_NUMBER: MSP430G2553; Vendor: Texas Instruments; PACKAGE_DESIGNATOR: PW; PIN_COUNT: 20; FAMILY_NAME: Value Line; INDUSTRY_STD_PKG_TYPE: TSSOP; Datasheet URL: http://www.ti.com/lit/gpn/MSP430G2553; Manufacturer: Texas Instruments; RefDes: RefDes; Type: DEV; Value: Value
footprint DRV8802
footprint PW20
pins: 1 DVCC (power), 2 P1.0 (io), 3 UCA0SOMI (io), 4 UCA0SIMO (io), 5 P1.3 (io), 6 UCA0CLK (io), 7 UCB0CLK (io), 8 P2.0/TA1.0 (io), 9 P2.1/TA1.1 (io), 10 P2.2/TA1.1 (io), 11 P2.3/TA1.0 (io), 12 P2.4/TA1.2 (io), 13 P2.5/TA1.2 (io), 14 UCB0SOMI (io), 15 UCB0SIMO (io), 16 *RST/NMI/SBWTDIO (io), 17 TEST/SBWTCK (io), 18 XOUT/P2.7 (io), 19 XIN/P2.6/TA0.1 (io), 20 DVSS (power)

## OPA4354
designator U?
footprint SOP8_N (SOIC, 8-Leads, Body 4.9x3.9mm, Pitch 1.27mm, IPC Medium Density)
part A pins: 1, 2, 3, 4, 11
part B pins: 5, 6, 7
part C pins: 8, 9, 10
part D pins: 12, 13, 14

## OPA-1
designator U?
footprint SOT23-5
pins: 1, 2, 3, 4, 5

## OPA-2
designator U?
footprint SOP8_N (SOIC, 8-Leads, Body 4.9x3.9mm, Pitch 1.27mm, IPC Medium Density)
part A pins: 1, 2, 3, 4, 8
part B pins: 4, 5, 6, 7, 8

## Probe
designator Pr?
footprint probe
pins: 1

## Push-Pull Tran
designator T?
Four-winding Transformer (Non-Ideal); Sim Note: Enter the turns ratios, Core loss resistance, Magnetising Reactance, Leakage Reactances and Resistances referred to the primary side into the parameter fields.; Published: 25-Jan-2001; LatestRevisionDate: 17-Jul-2002; LatestRevisionNote: Re-released for DXP Platform.; PackageReference: TRF_8; Publisher: Altium Limited
pins: 1, 2, 3, 4, 5, 6, 7, 8, 9, 10, 11, 12, 13, 14, 15, 16, 17, 18, 19, 20

## REF3025
designator U?
footprint SOT23-3N (SOT23, 3-Leads, Body 2.9x1.3mm, Pitch 0.95mm, Lead Span 2.5mm, IPC Medium Density)
pins: 1 IN, 2 OUT, 3 GND

## REG1117-3.3
designator U?
footprint SOT223 (SOT223, 4-Leads, Body 6.5x3.5mm, Pitch 2.3mm, Lead Span 7mm, IPC Medium Density)
pins: 1 GND, 2 VOUT, 3 VIN, 4 VOUT

## Res1
designator R?  value 25  (hidden comment: Res1)
Resistor; Published: 8-Jun-2000; Revision: July-2002: Re-released for DXP Platform.; Publisher: Altium Limited
footprint 0805
simulation model RESISTOR (Resistor)
signal-integrity model Res
pins: 1, 2
1 alternate drawing of the same symbol

## RES2
designator R?, comment 4.7K
footprint 0805
pins: 1, 2
2 alternate drawings of the same symbol

## RJ45
designator U*
RJ45
footprint HR911105
pins: 1 TXON, 2 TXOP, 3 RXIN, 4 TXCT, 5 RXCT, 6 RXIP, 7 NC, 8 GND, 9 LED G, 10 LED_GND, 11 LED_GND, 12 LED Y

## RT9193
designator U?
footprint SOT23-5
pins: 1 VIN, 2 GND, 3 EN, 4 BP, 5 VOUT

## SEPIC-Trans
designator T?
Four-winding Transformer (Non-Ideal); Sim Note: Enter the turns ratios, Core loss resistance, Magnetising Reactance, Leakage Reactances and Resistances referred to the primary side into the parameter fields.; Published: 25-Jan-2001; LatestRevisionDate: 17-Jul-2002; LatestRevisionNote: Re-released for DXP Platform.; PackageReference: TRF_8; Publisher: Altium Limited
footprint TRF_8 (Four-winding Transformer (Non-Ideal); 8 Leads)
simulation model NI4WTRANS (Spice Subcircuit)
pins: 1 Pri+, 2 Pri-, 5 Sec2+, 6 Sec2-

## SN65HVD230
designator D?, comment SN65HVD230D
footprint SOP8
pins: 1 D, 2 GND, 3 VCC, 4 R, 5 VREF, 6 CANL, 7 CANH, 8 RS

## SN65HVDA1040A-Q1
designator U?
Imported; Manufacturer_Part_Number: sn65hvda1040a-q1_dsj_12; GENERIC_PART_NUMBER: SN65HVDA1040A-Q1; Vendor: Texas Instruments; PACKAGE_DESIGNATOR: DSJ; PIN_COUNT: 12; FAMILY_NAME: CAN; INDUSTRY_STD_PKG_TYPE: VSON; Datasheet URL: http://www.ti.com/lit/gpn/SN65HVDA1040A-Q1; Manufacturer: Texas Instruments; RefDes: RefDes; Type: DEV; Value: Value
footprint DSJ12_1P7X3P3
pins: 1 TXD (in), 2 GND (power), 3 VCC (power), 4 RXD (out), 5 NC, 6 NC, 7 NC, 8 NC, 9 SPLIT (out), 10 CANL (io), 11 CANH (io), 12 STB (in), 13 EPAD

## SST39VF800
designator U?
footprint TSOP48_N (TSSOP, 48-Leads, Body 12x18.4mm, Pitch 0.5mm, IPC Medium Density)
pins: 1 A15, 2 A14, 3 A13, 4 A12, 5 A11, 6 A10, 7 A9, 8 A8, 9 NC, 10 NC, 11 WE, 12 NC, 13 NC, 14 NC, 15 NC, 16 A18, 17 A17, 18 A7, 19 A6, 20 A5, 21 A4, 22 A3, 23 A2, 24 A1, 25 A0, 26 CE, 27 VSS, 28 OE, 29 D0, 30 D8, 31 D1, 32 D9, 33 D2, 34 D10, 35 D3, 36 D11, 37 VDD, 38 D4, 39 D12, 40 D5, 41 D13, 42 D6, 43 D14, 44 D7, 45 D15, 46 VSS, 47 NC, 48 A16

## STM32F103
designator U?
footprint LQFP48 (Footprint not found)
pins: 1 VBAT, 2 PC13, 3 PC14, 4 PC15, 5 PD0-OSCIN, 6 PD1-OSCIN, 7 NRST, 8 VSSA, 9 VDDA, 10 PA0, 11 PA1, 12 PA2, 13 PA3, 14 PA4, 15 PA5, 16 PA6, 17 PA7, 18 PB0, 19 PB1, 20 PB2/BOOT1, 21 PB10, 22 PB11, 23 VSS, 24 VDD, 25 PB12, 26 PB13, 27 PB14, 28 PB15, 29 PA8, 30 PA9, 31 PA10, 32 PA11, 33 PA12, 34 PA13, 35 VSS, 36 VDD, 37 PA14, 38 PA15, 39 PB3, 40 PB4, 41 PB5, 42 PB6, 43 PB7, 44 BOOT0, 45 PB8, 46 PB9, 47 VSS, 48 VDD

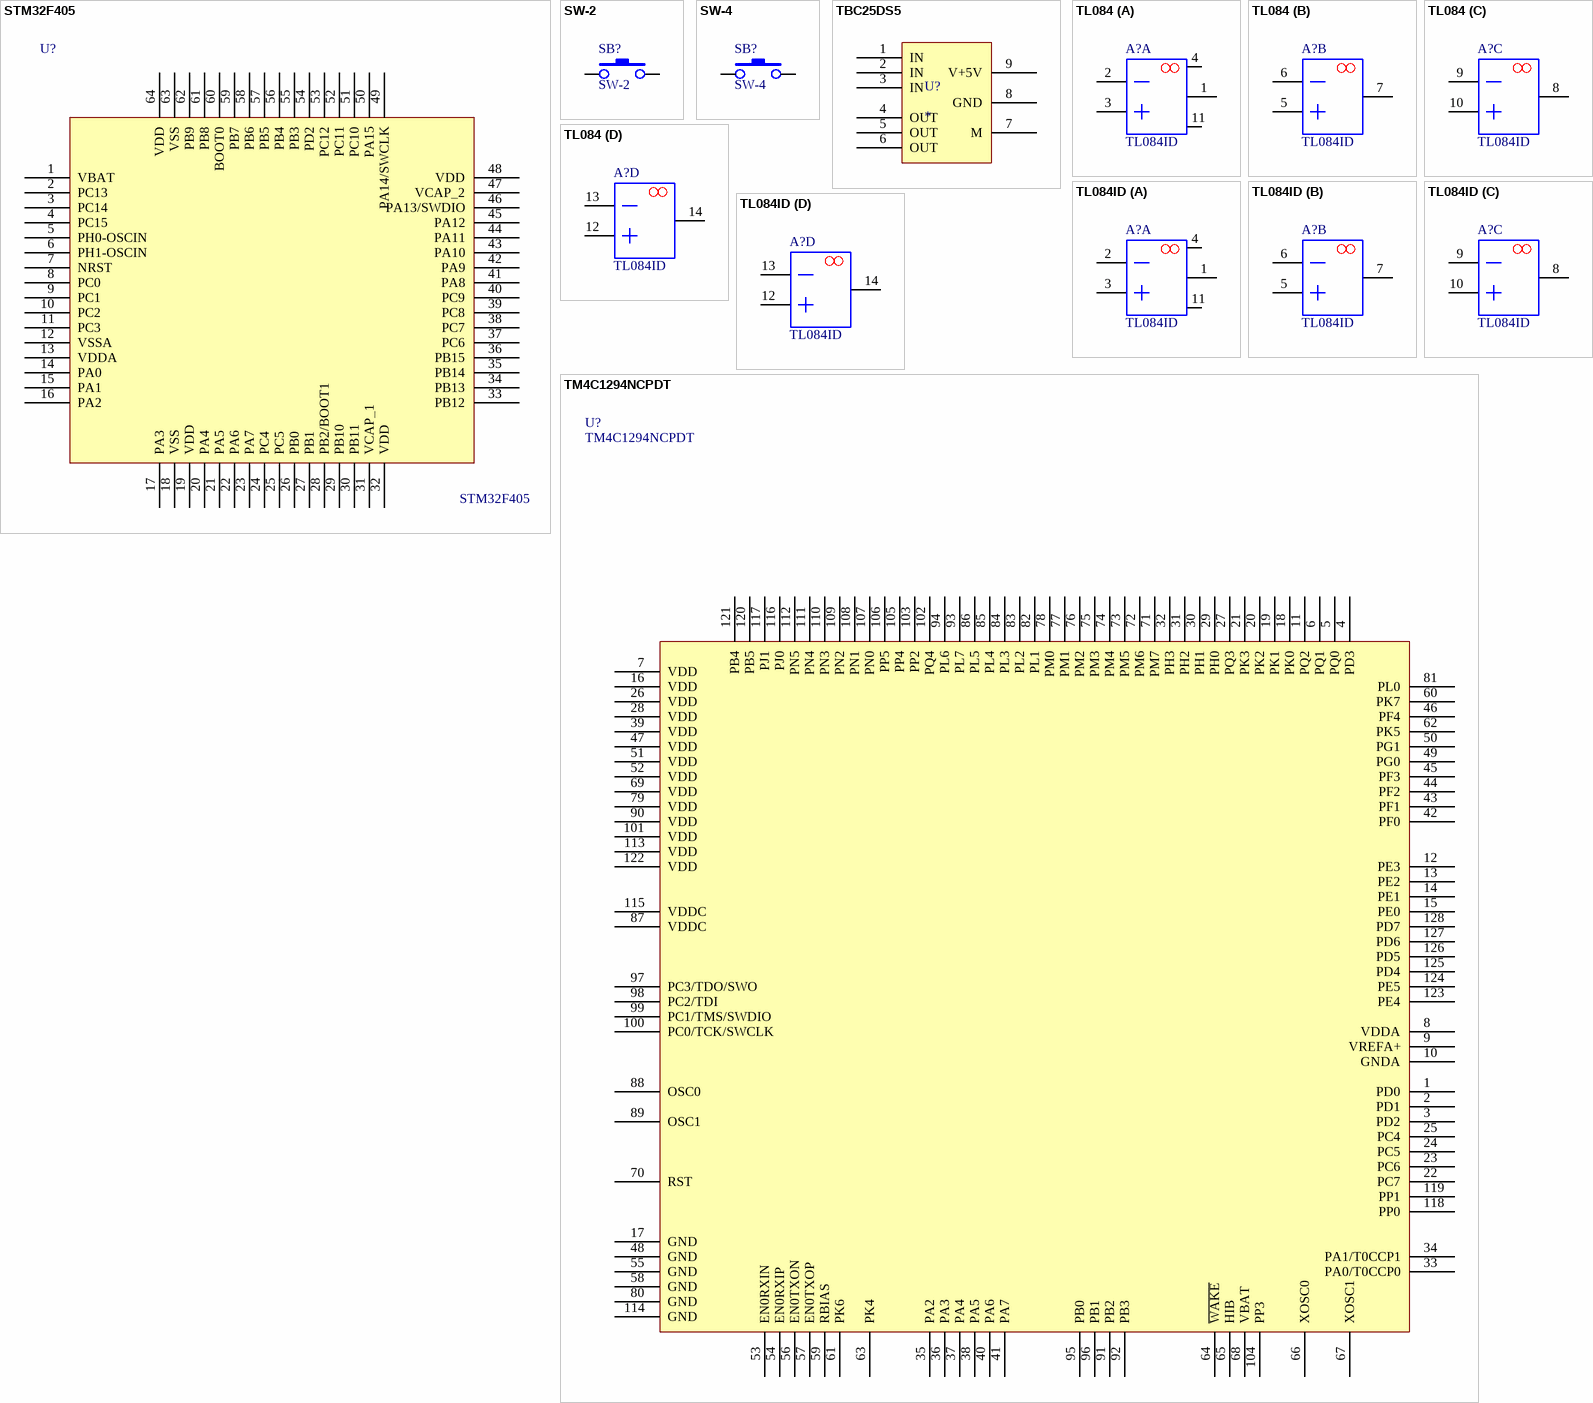
[diagram p4: symbols STM32F405 to TM4C1294NCPDT]

## STM32F405
designator U?
footprint EQFP64
pins: 1 VBAT, 2 PC13, 3 PC14, 4 PC15, 5 PH0-OSCIN, 6 PH1-OSCIN, 7 NRST, 8 PC0, 9 PC1, 10 PC2, 11 PC3, 12 VSSA, 13 VDDA, 14 PA0, 15 PA1, 16 PA2, 17 PA3, 18 VSS, 19 VDD, 20 PA4, 21 PA5, 22 PA6, 23 PA7, 24 PC4, 25 PC5, 26 PB0, 27 PB1, 28 PB2/BOOT1, 29 PB10, 30 PB11, 31 VCAP_1, 32 VDD, 33 PB12, 34 PB13, 35 PB14, 36 PB15, 37 PC6, 38 PC7, 39 PC8, 40 PC9, 41 PA8, 42 PA9, 43 PA10, 44 PA11, 45 PA12, 46 PA13/SWDIO, 47 VCAP_2, 48 VDD, 49 PA14/SWCLK, 50 PA15, 51 PC10, 52 PC11, 53 PC12, 54 PD2, 55 PB3, 56 PB4, 57 PB5, 58 PB6, 59 PB7, 60 BOOT0, 61 PB8, 62 PB9, 63 VSS, 64 VDD

## SW-2
designator SB?
footprint key
pins: 1, 2

## SW-4
designator SB?
footprint SKRPADE010
pins: 1, 2, 3, 4

## TBC25DS5
designator U?
footprint TBC25DS5
pins: 1 IN, 2 IN, 3 IN, 4 OUT, 5 OUT, 6 OUT, 7 M, 8 GND, 9 V+5V

## TL084
designator A?, comment TL084ID
footprint 14-DIP-300
footprint SO-14
footprint 14-SO-300
part A pins: 1, 2, 3, 4, 11
part B pins: 5, 6, 7
part C pins: 8, 9, 10
part D pins: 12, 13, 14

## TL084ID
designator A?
footprint 14-DIP-300
footprint 14-SO-300
footprint SO-14
part A pins: 1, 2, 3, 4, 11
part B pins: 5, 6, 7
part C pins: 8, 9, 10
part D pins: 12, 13, 14

## TM4C1294NCPDT
designator U?
footprint TQFP128_N (Thin QFP, 128-Leads, Body 14x14mm, Pitch 0.4mm, IPC Medium Density)
pins: 1 PD0, 2 PD1, 3 PD2, 4 PD3, 5 PQ0, 6 PQ1, 7 VDD, 8 VDDA, 9 VREFA+, 10 GNDA, 11 PQ2, 12 PE3, 13 PE2, 14 PE1, 15 PE0, 16 VDD, 17 GND, 18 PK0, 19 PK1, 20 PK2, 21 PK3, 22 PC7, 23 PC6, 24 PC5, 25 PC4, 26 VDD, 27 PQ3, 28 VDD, 29 PH0, 30 PH1, 31 PH2, 32 PH3, 33 PA0/T0CCP0, 34 PA1/T0CCP1, 35 PA2, 36 PA3, 37 PA4, 38 PA5, 39 VDD, 40 PA6, 41 PA7, 42 PF0, 43 PF1, 44 PF2, 45 PF3, 46 PF4, 47 VDD, 48 GND, 49 PG0, 50 PG1, 51 VDD, 52 VDD, 53 EN0RXIN, 54 EN0RXIP, 55 GND, 56 EN0TXON, 57 EN0TXOP, 58 GND, 59 RBIAS, 60 PK7, 61 PK6, 62 PK5, 63 PK4, 64 ~{WAKE}, 65 HIB, 66 XOSC0, 67 XOSC1, 68 VBAT, 69 VDD, 70 RST, 71 PM7, 72 PM6, 73 PM5, 74 PM4, 75 PM3, 76 PM2, 77 PM1, 78 PM0, 79 VDD, 80 GND, 81 PL0, 82 PL1, 83 PL2, 84 PL3, 85 PL4, 86 PL5, 87 VDDC, 88 OSC0, 89 OSC1, 90 VDD, 91 PB2, 92 PB3, 93 PL7, 94 PL6, 95 PB0, 96 PB1, 97 PC3/TDO/SWO, 98 PC2/TDI, 99 PC1/TMS/SWDIO, 100 PC0/TCK/SWCLK, 101 VDD, 102 PQ4, 103 PP2, 104 PP3, 105 PP4, 106 PP5, 107 PN0, 108 PN1, 109 PN2, 110 PN3, 111 PN4, 112 PN5, 113 VDD, 114 GND, 115 VDDC, 116 PJ0, 117 PJ1, 118 PP0, 119 PP1, 120 PB5, 121 PB4, 122 VDD, 123 PE4, 124 PE5, 125 PD4, 126 PD5, 127 PD6, 128 PD7

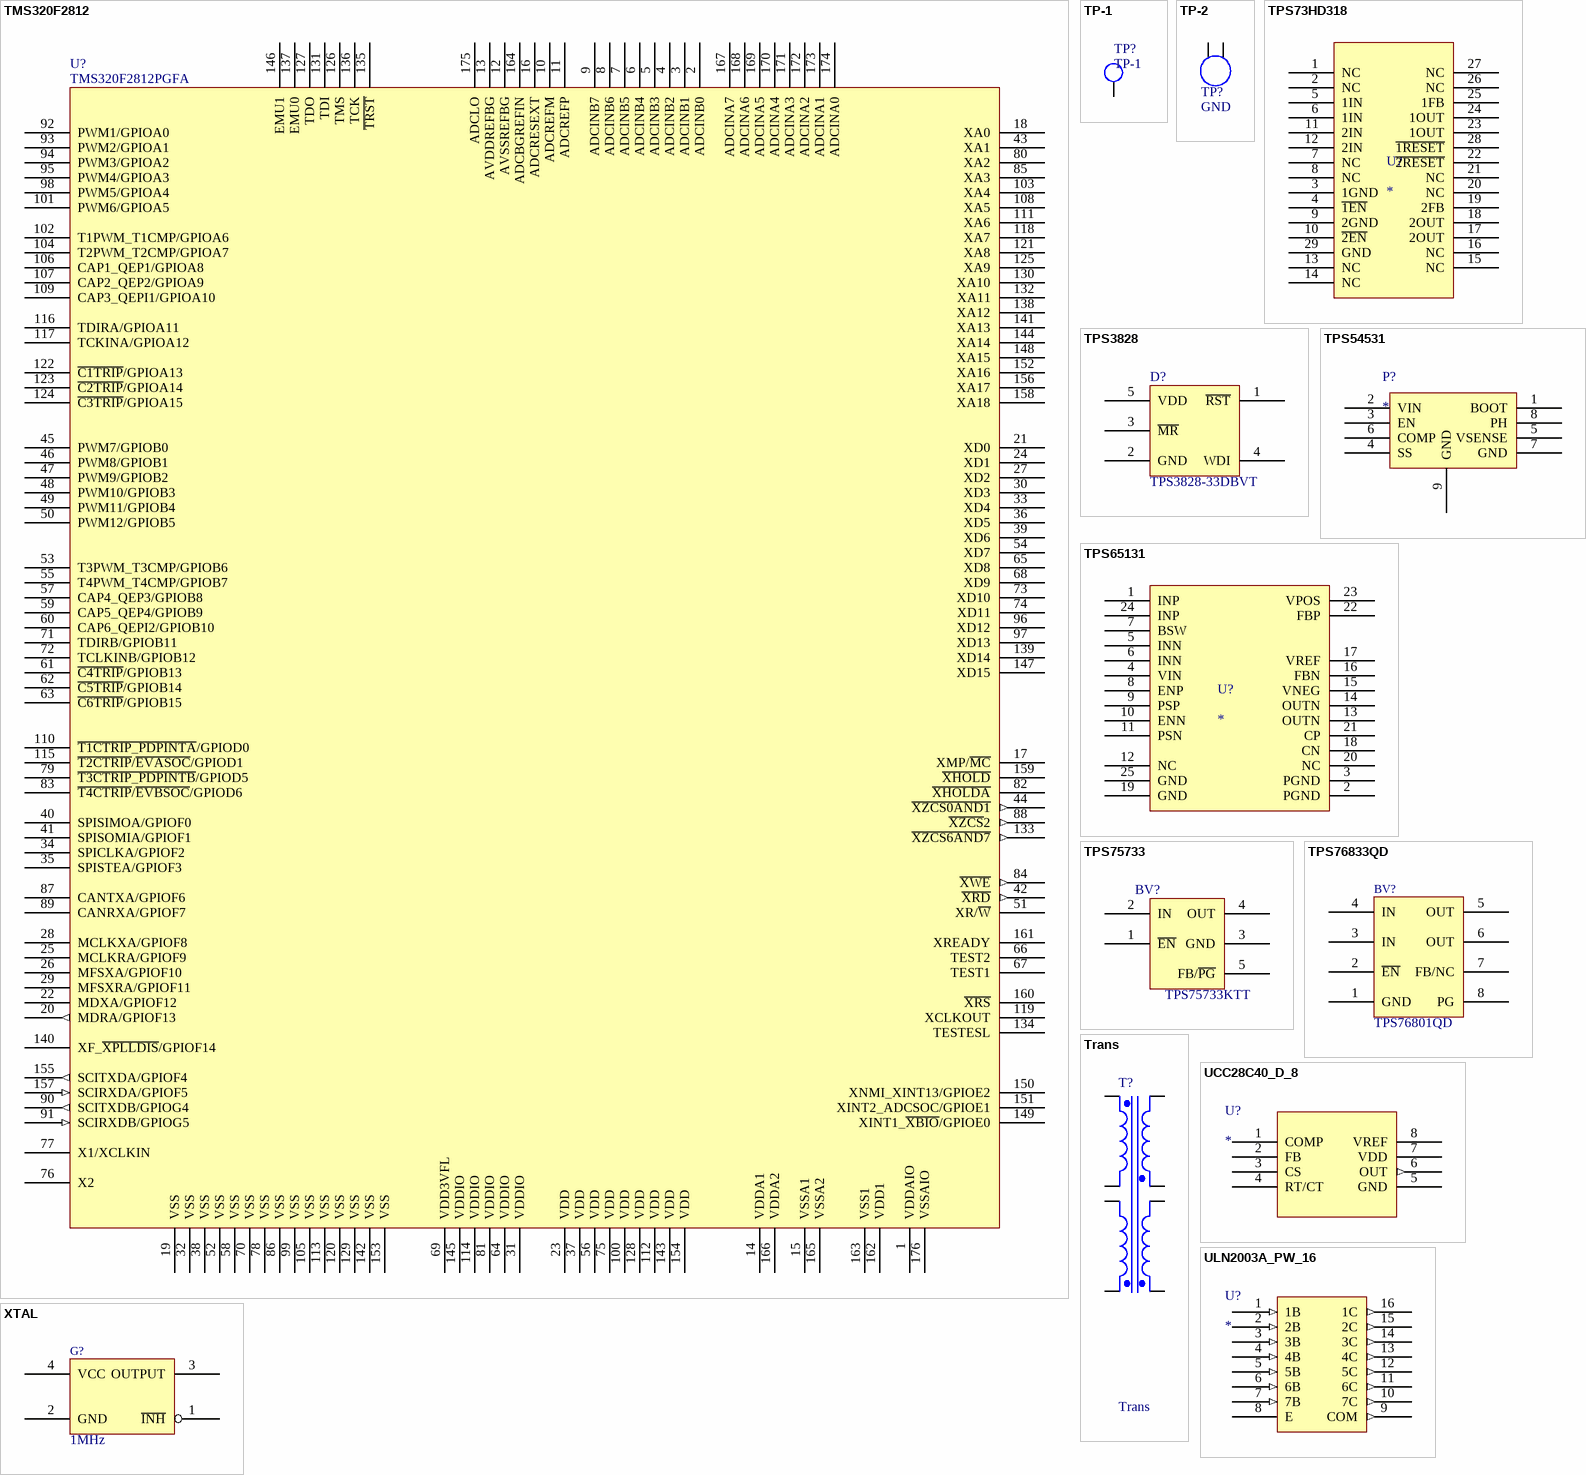
[diagram p5: symbols TMS320F2812 to XTAL]

## TMS320F2812
designator U?, comment TMS320F2812PGFA
footprint TQFP24×24-176(N)
pins: 1 VDDAIO, 2 ADCINB0, 3 ADCINB1, 4 ADCINB2, 5 ADCINB3, 6 ADCINB4, 7 ADCINB5, 8 ADCINB6, 9 ADCINB7, 10 ADCREFM, 11 ADCREFP, 12 AVSSREFBG, 13 AVDDREFBG, 14 VDDA1, 15 VSSA1, 16 ADCRESEXT, 17 XMP/~{MC}, 18 XA0, 19 VSS, 20 MDRA/GPIOF13 (out), 21 XD0, 22 MDXA/GPIOF12, 23 VDD, 24 XD1, 25 MCLKRA/GPIOF9, 26 MFSXA/GPIOF10, 27 XD2, 28 MCLKXA/GPIOF8, 29 MFSXRA/GPIOF11, 30 XD3, 31 VDDIO, 32 VSS, 33 XD4, 34 SPICLKA/GPIOF2, 35 SPISTEA/GPIOF3, 36 XD5, 37 VDD, 38 VSS, 39 XD6, 40 SPISIMOA/GPIOF0, 41 SPISOMIA/GPIOF1, 42 ~{XRD} (out), 43 XA1, 44 ~{XZCS0AND1} (out), 45 PWM7/GPIOB0, 46 PWM8/GPIOB1, 47 PWM9/GPIOB2, 48 PWM10/GPIOB3, 49 PWM11/GPIOB4, 50 PWM12/GPIOB5, 51 XR/~{W}, 52 VSS, 53 T3PWM_T3CMP/GPIOB6, 54 XD7, 55 T4PWM_T4CMP/GPIOB7, 56 VDD, 57 CAP4_QEP3/GPIOB8, 58 VSS, 59 CAP5_QEP4/GPIOB9, 60 CAP6_QEPI2/GPIOB10, 61 ~{C4TRIP}/GPIOB13, 62 ~{C5TRIP}/GPIOB14, 63 ~{C6TRIP}/GPIOB15, 64 VDDIO, 65 XD8, 66 TEST2, 67 TEST1, 68 XD9, 69 VDD3VFL, 70 VSS, 71 TDIRB/GPIOB11, 72 TCLKINB/GPIOB12, 73 XD10, 74 XD11, 75 VDD, 76 X2, 77 X1/XCLKIN, 78 VSS, 79 ~{T3CTRIP_PDPINTB}/GPIOD5, 80 XA2, 81 VDDIO, 82 ~{XHOLDA}, 83 ~{T4CTRIP}/~{EVBSOC}/GPIOD6, 84 ~{XWE} (out), 85 XA3, 86 VSS, 87 CANTXA/GPIOF6, 88 ~{XZCS}2 (out), 89 CANRXA/GPIOF7, 90 SCITXDB/GPIOG4 (out), 91 SCIRXDB/GPIOG5 (in), 92 PWM1/GPIOA0, 93 PWM2/GPIOA1, 94 PWM3/GPIOA2, 95 PWM4/GPIOA3, 96 XD12, 97 XD13, 98 PWM5/GPIOA4, 99 VSS, 100 VDD, 101 PWM6/GPIOA5, 102 T1PWM_T1CMP/GPIOA6, 103 XA4, 104 T2PWM_T2CMP/GPIOA7, 105 VSS, 106 CAP1_QEP1/GPIOA8, 107 CAP2_QEP2/GPIOA9, 108 XA5, 109 CAP3_QEPI1/GPIOA10, 110 ~{T1CTRIP_PDPINTA}/GPIOD0, 111 XA6, 112 VDD, 113 VSS, 114 VDDIO, 115 ~{T2CTRIP}/~{EVASOC}/GPIOD1, 116 TDIRA/GPIOA11, 117 TCKINA/GPIOA12, 118 XA7, 119 XCLKOUT, 120 VSS, 121 XA8, 122 ~{C1TRIP}/GPIOA13, 123 ~{C2TRIP}/GPIOA14, 124 ~{C3TRIP}/GPIOA15, 125 XA9, 126 TMS, 127 TDO, 128 VDD, 129 VSS, 130 XA10, 131 TDI, 132 XA11, 133 ~{XZCS6AND7} (out), 134 TESTESL, 135 ~{TRST}, 136 TCK, 137 EMU0, 138 XA12, 139 XD14, 140 XF_~{XPLLDIS}/GPIOF14, 141 XA13, 142 VSS, 143 VDD, 144 XA14, 145 VDDIO, 146 EMU1, 147 XD15, 148 XA15, 149 XINT1_~{XBIO}/GPIOE0, 150 XNMI_XINT13/GPIOE2, 151 XINT2_ADCSOC/GPIOE1, 152 XA16, 153 VSS, 154 VDD, 155 SCITXDA/GPIOF4 (out), 156 XA17, 157 SCIRXDA/GPIOF5 (in), 158 XA18, 159 ~{XHOLD}, 160 ~{XRS}, 161 XREADY, 162 VDD1, 163 VSS1, 164 ADCBGREFIN, 165 VSSA2, 166 VDDA2, 167 ADCINA7, 168 ADCINA6, 169 ADCINA5, 170 ADCINA4, 171 ADCINA3, 172 ADCINA2, 173 ADCINA1, 174 ADCINA0, 175 ADCLO, 176 VSSAIO
2 alternate drawings of the same symbol

## TP-1
designator TP?
footprint TP-1-P
pins: 1
2 alternate drawings of the same symbol

## TP-2
designator TP?, comment GND
footprint TP-2-P
footprint TP-2GND-P
pins: 1, 2
2 alternate drawings of the same symbol

## TPS73HD318
designator U?
footprint PWP28_6P46X2P4
pins: 1 NC, 2 NC, 3 1GND, 4 ~{1EN}, 5 1IN, 6 1IN, 7 NC, 8 NC, 9 2GND, 10 ~{2EN}, 11 2IN, 12 2IN, 13 NC, 14 NC, 15 NC, 16 NC, 17 2OUT, 18 2OUT, 19 2FB, 20 NC, 21 NC, 22 ~{2RESET}, 23 1OUT, 24 1OUT, 25 1FB, 26 NC, 27 NC, 28 ~{1RESET}, 29 GND

## TPS3828
designator D?, comment TPS3828-33DBVT
footprint SOT-25
pins: 1 ~{RST}, 2 GND, 3 ~{MR}, 4 WDI, 5 VDD
2 alternate drawings of the same symbol

## TPS54531
designator P?
pins: 1 BOOT, 2 VIN, 3 EN, 4 SS, 5 VSENSE, 6 COMP, 7 GND, 8 PH, 9 GND

## TPS65131
designator U?
footprint RGE24_2P45X2P45
pins: 1 INP, 2 PGND, 3 PGND, 4 VIN, 5 INN, 6 INN, 7 BSW, 8 ENP, 9 PSP, 10 ENN, 11 PSN, 12 NC, 13 OUTN, 14 OUTN, 15 VNEG, 16 FBN, 17 VREF, 18 CN, 19 GND, 20 NC, 21 CP, 22 FBP, 23 VPOS, 24 INP, 25 GND

## TPS75733
designator BV?, comment TPS75733KTT
footprint TO-220KTT
pins: 1 ~{EN}, 2 IN, 3 GND, 4 OUT, 5 FB/~{PG}

## TPS76833QD
designator BV?, comment TPS76801QD
footprint 8-SO-300
pins: 1 GND, 2 ~{EN}, 3 IN, 4 IN, 5 OUT, 6 OUT, 7 FB/NC, 8 PG

## Trans
designator T?
Four-winding Transformer (Non-Ideal); Sim Note: Enter the turns ratios, Core loss resistance, Magnetising Reactance, Leakage Reactances and Resistances referred to the primary side into the parameter fields.; Published: 25-Jan-2001; LatestRevisionDate: 17-Jul-2002; LatestRevisionNote: Re-released for DXP Platform.; PackageReference: TRF_8; Publisher: Altium Limited
footprint TRF_8 (Four-winding Transformer (Non-Ideal); 8 Leads)
simulation model NI4WTRANS (Spice Subcircuit)
pins: 1 Pri+, 2 Pri-, 3 Sec1+, 4 Sec1-, 5 Sec2+, 6 Sec2-, 7 Sec3+, 8 Sec3-

## UCC28C40_D_8
designator U?
Imported; Manufacturer: Texas Instruments; GENERIC_PART_NUMBER: UCC28C40; Manufacturer_Part_Number: ucc28c40_d_8; INDUSTRY_STD_PKG_TYPE: SOIC; FAMILY_NAME: PWM CONTROLLER; PIN_COUNT: 8; PACKAGE_DESIGNATOR: D; Datasheet URL: http://www.ti.com/lit/gpn/UCC28C40; Vendor: Texas Instruments; RefDes: RefDes; Type: DEV; Value: Value
footprint D8-L
pins: 1 COMP, 2 FB, 3 CS, 4 RT/CT, 5 GND (power), 6 OUT (out), 7 VDD (power), 8 VREF

## ULN2003A_PW_16
designator U?
Imported; Manufacturer: Texas Instruments; GENERIC_PART_NUMBER: ULN2003A; INDUSTRY_STD_PKG_TYPE: TSSOP; FAMILY_NAME: PERIPHERAL DRIVER AND ACTUATOR; PIN_COUNT: 16; PACKAGE_DESIGNATOR: PW; Datasheet URL: http://www.ti.com/lit/gpn/ULN2003A; RefDes: RefDes; Type: DEV; Value: Value
footprint PW16
footprint TSSOP16
pins: 1 1B (in), 2 2B (in), 3 3B (in), 4 4B (in), 5 5B (in), 6 6B (in), 7 7B (in), 8 E, 9 COM (out), 10 7C (out), 11 6C (out), 12 5C (out), 13 4C (out), 14 3C (out), 15 2C (out), 16 1C (out)

## XTAL
designator G?, comment 1MHz
footprint XTAL
pins: 1 ~{INH}, 2 GND, 3 OUTPUT, 4 VCC